# EAGLE library part ADS1213 (library RobThePyro)
22-Bit Analog-to-Digital Converter
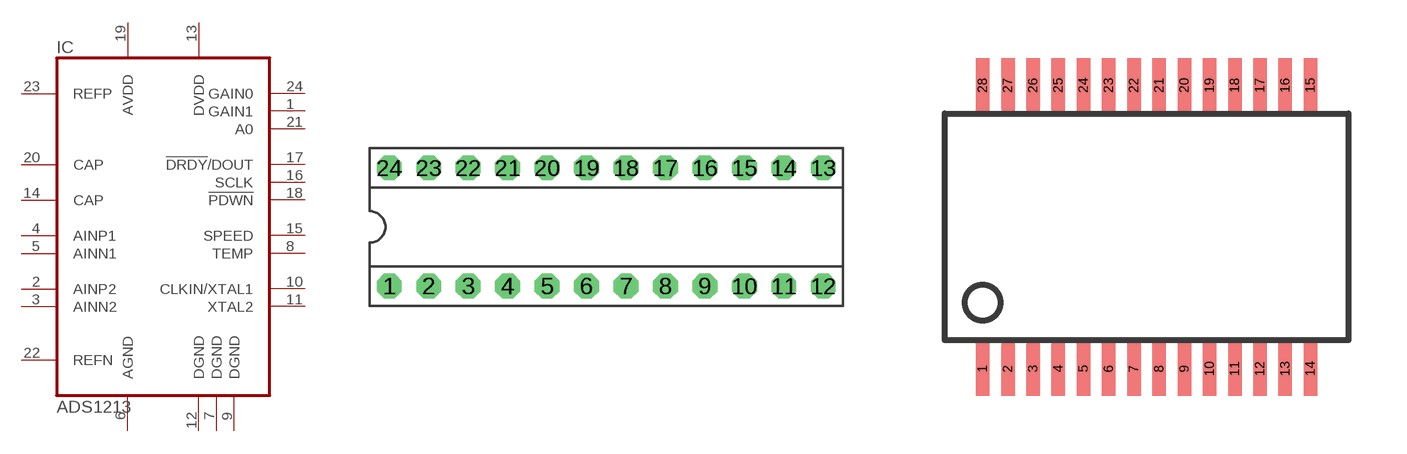
[diagram p4: symbol with the pads of DIL24-3; footprints DIL24-3, SSOP28BU]

Designator prefix IC

## ADS1213P (MF: TEXAS INSTRUMENTS; MPN: ADS1213P; OC_FARNELL: unknown; OC_NEWARK: 14M9330)  [DIL24-3]
1  GAIN1  in
2  AINP2  in
3  AINN2  in
4  AINP1  in
5  AINN1  in
6  AGND  pwr
7  DGND  pwr
8  TEMP  in
9  DGND  pwr
10  CLKIN/XTAL1  in
11  XTAL2  in
12  DGND  pwr
13  DVDD  pwr
14  CAP  pas
15  SPEED  in
16  SCLK  in
17  !DRDY!/DOUT  out
18  !PDWN  in
19  AVDD  pwr
20  CAP  pas
21  A0  in
22  REFN  in
23  REFP  in
24  GAIN0  in

## ADS1213E (MF: TEXAS INSTRUMENTS; MPN: ADS1213E; OC_FARNELL: unknown; OC_NEWARK: 74C6980)  [SSOP28BU]
1  GAIN1  in
2  AINP2  in
3  AINN2  in
4  AINP1  in
5  AINN1  in
6  AGND  pwr
7  DGND  pwr
10  TEMP  in
11  DGND  pwr
12  CLKIN/XTAL1  in
13  XTAL2  in
14  DGND  pwr
15  DVDD  pwr
16  CAP  pas
17  SPEED  in
18  SCLK  in
19  !DRDY!/DOUT  out
22  !PDWN  in
23  AVDD  pwr
24  CAP  pas
25  A0  in
26  REFN  in
27  REFP  in
28  GAIN0  in

## ADS1213U (MF: TEXAS INSTRUMENTS; MPN: ADS1213U; OC_FARNELL: 1234905; OC_NEWARK: 35C1517)  [SO24L]
Pads as for DIL24-3

## Footprint DIL24-3 (pad centres in mm)
Dual In Line 0.3 inch
drill 0.813 pad 1.6 octagon: 1 -13.97,-3.81; 2 -11.43,-3.81; 3 -8.89,-3.81; 4 -6.35,-3.81; 5 -3.81,-3.81; 6 -1.27,-3.81; 7 1.27,-3.81; 8 3.81,-3.81; 9 6.35,-3.81; 10 8.89,-3.81; 11 11.43,-3.81; 12 13.97,-3.81; 13 13.97,3.81; 14 11.43,3.81; 15 8.89,3.81; 16 6.35,3.81; 17 3.81,3.81; 18 1.27,3.81; 19 -1.27,3.81; 20 -3.81,3.81; 21 -6.35,3.81; 22 -8.89,3.81; 23 -11.43,3.81; 24 -13.97,3.81

## Footprint SSOP28BU (pad centres in mm)
Small Shrink Outline Package
smd 0.348 x 1.397: 1 -4.225,-3.656; 2 -3.575,-3.656; 3 -2.925,-3.656; 4 -2.275,-3.656; 5 -1.625,-3.656; 6 -0.975,-3.656; 7 -0.325,-3.656; 8 0.325,-3.656; 9 0.975,-3.656; 10 1.625,-3.656; 11 2.275,-3.656; 12 2.925,-3.656; 13 3.575,-3.656; 14 4.225,-3.656; 15 4.225,3.656; 16 3.575,3.656; 17 2.925,3.656; 18 2.275,3.656; 19 1.625,3.656; 20 0.975,3.656; 21 0.325,3.656; 22 -0.325,3.656; 23 -0.975,3.656; 24 -1.625,3.656; 25 -2.275,3.656; 26 -2.925,3.656; 27 -3.575,3.656; 28 -4.225,3.656

## Footprint SO24L (pad centres in mm)
Small Outline Package, large
smd 0.61 x 2.21: 1 -6.985,-5.029; 2 -5.715,-5.029; 3 -4.445,-5.029; 4 -3.175,-5.029; 5 -1.905,-5.029; 6 -0.635,-5.029; 7 0.635,-5.029; 8 1.905,-5.029; 9 3.175,-5.029; 10 4.445,-5.029; 11 5.715,-5.029; 12 6.985,-5.029; 13 6.985,5.029; 14 5.715,5.029; 15 4.445,5.029; 16 3.175,5.029; 17 1.905,5.029; 18 0.635,5.029; 19 -0.635,5.029; 20 -1.905,5.029; 21 -3.175,5.029; 22 -4.445,5.029; 23 -5.715,5.029; 24 -6.985,5.029